# Altium schematic symbol library FTSH-107-01-L-DV-K.SchLib: 1 symbol
Pins are listed as number, name and electrical type; pins without a type are passive.

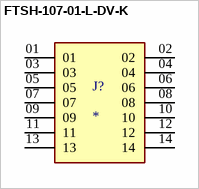
[diagram p0: symbol FTSH-107-01-L-DV-K]

## FTSH-107-01-L-DV-K
designator J?
MF: Samtec; MP: FTSH-107-01-L-DV-K; Value: *; Price: None; Package: None; Availability: Unavailable
footprint SAMTEC_FTSH-107-01-L-DV-K
pins: 01, 02, 03, 04, 05, 06, 07, 08, 09, 10, 11, 12, 13, 14